# Altium footprint library PCB Library.PcbLib: 24 footprints (part 1 of 2)
Each footprint in its own frame and in the unit in brackets; x right, y up, seen from the top. Pads: shape width x height; smd on the part's side, far side on the other; paste and mask are expansions set on the pad; w line width, h text height; cw(c..) or ccw(c..) is an arc to the next point about the centre after c.
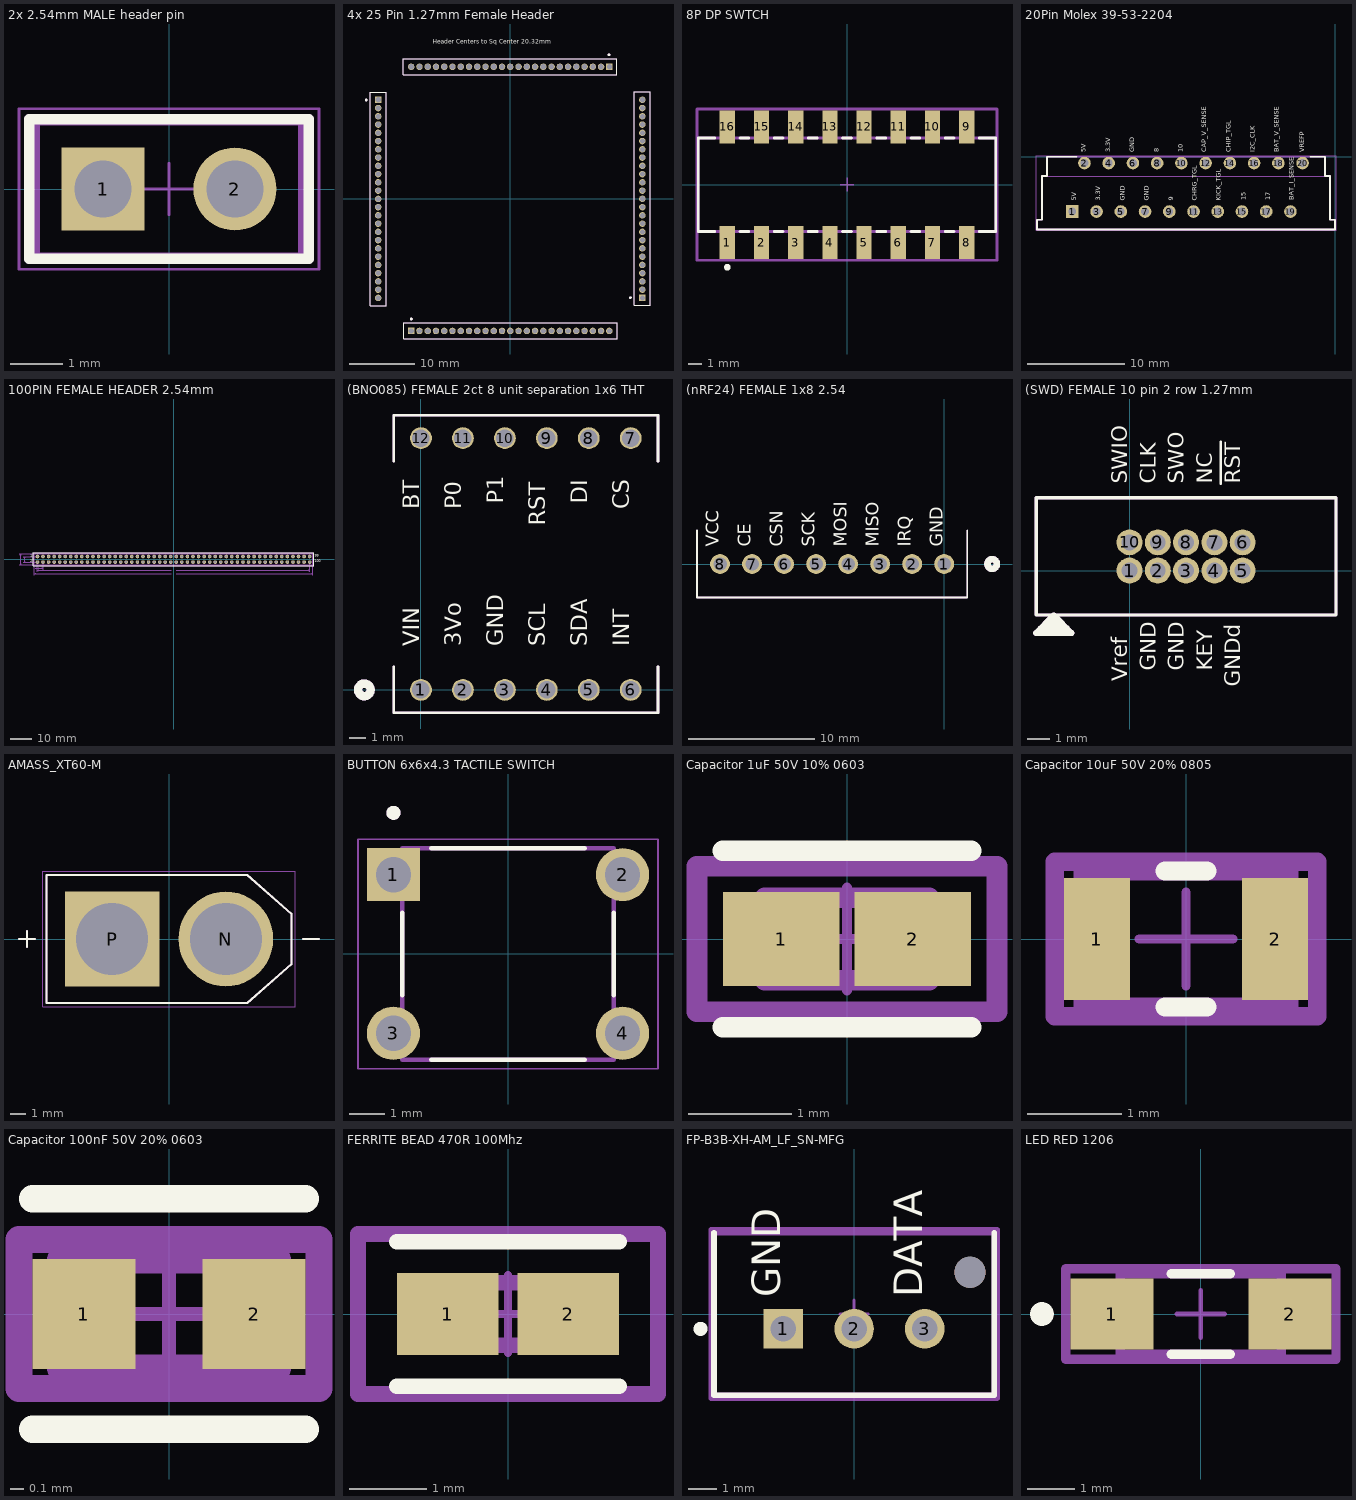
[diagram p0: the footprints below, top view; thin cyan lines are the x and y axes]

## 2x 2.54mm MALE header pin [mm] "Pin Header, pitch 2.54 mm, THT, Vertical, single row, 2p"
height 8.54
pads (2):
  rect 1.6x1.6 hole 1.1: 1(-1.27,0)
  round 1.6 hole 1.1: 2(1.27,0)
Top Overlay:
  lines w0.2: -2.69,-1.345 2.69,-1.345 2.69,1.345 -2.69,1.345 -2.69,-1.345
Top Assembly:
  lines w0.2: -2.69,-1.345 2.69,-1.345 2.69,1.345 -2.69,1.345 -2.69,-1.345
  text ".Designator" at -7.618,-0.508 h1.52
Top Courtyard:
  lines w0.05: -0.5,0 0.5,0 ; 0,-0.5 0,0.5 ; -2.89,-1.545 -2.89,1.545 2.89,1.545 2.89,-1.545 -2.89,-1.545
Top 3D Body:
  lines w0.1: -2.54,-1.27 -2.54,1.27 2.54,1.27 2.54,-1.27 -2.54,-1.27
3D body "61300211121.stp": height 8.57, standoff -2.97, extent -2.54,-1.27 2.54,1.27

## 4x 25 Pin 1.27mm Female Header [mm]
pads (100):
  rect 1x1 hole 0.79: 1(-20.32,15.24) 26(-15.24,-20.32) 51(20.32,-15.24) 76(15.24,20.32)
  round 1 hole 0.79: 2(-20.32,13.97) 3(-20.32,12.7) 4(-20.32,11.43) 5(-20.32,10.16) 6(-20.32,8.89) 7(-20.32,7.62) 8(-20.32,6.35) 9(-20.32,5.08) 10(-20.32,3.81) 11(-20.32,2.54) 12(-20.32,1.27) 13(-20.32,-0.012) 14(-20.32,-1.27) 15(-20.32,-2.54) 16(-20.32,-3.81) 17(-20.32,-5.08) 18(-20.32,-6.35) 19(-20.32,-7.62) 20(-20.32,-8.89) 21(-20.32,-10.16) 22(-20.32,-11.43) 23(-20.32,-12.7) 24(-20.32,-13.97) 25(-20.32,-15.24) 27(-13.97,-20.32) 28(-12.7,-20.32) 29(-11.43,-20.32) 30(-10.16,-20.32) 31(-8.89,-20.32) 32(-7.62,-20.32) 33(-6.35,-20.32) 34(-5.08,-20.32) 35(-3.81,-20.32) 36(-2.54,-20.32) 37(-1.27,-20.32) 38(0.013,-20.32) 39(1.27,-20.32) 40(2.54,-20.32) 41(3.81,-20.32) 42(5.08,-20.32) 43(6.35,-20.32) 44(7.62,-20.32) 45(8.89,-20.32) 46(10.16,-20.32) 47(11.43,-20.32) 48(12.7,-20.32) 49(13.97,-20.32) 50(15.24,-20.32) 52(20.32,-13.97) 53(20.32,-12.7) 54(20.32,-11.43) 55(20.32,-10.16) 56(20.32,-8.89) 57(20.32,-7.62) 58(20.32,-6.35) 59(20.32,-5.08) 60(20.32,-3.81) 61(20.32,-2.54) 62(20.32,-1.27) 63(20.32,0.012) 64(20.32,1.27) 65(20.32,2.54) 66(20.32,3.81) 67(20.32,5.08) 68(20.32,6.35) 69(20.32,7.62) 70(20.32,8.89) 71(20.32,10.16) 72(20.32,11.43) 73(20.32,12.7) 74(20.32,13.97) 75(20.32,15.24) 77(13.97,20.32) 78(12.7,20.32) 79(11.43,20.32) 80(10.16,20.32) 81(8.89,20.32) 82(7.62,20.32) 83(6.35,20.32) 84(5.08,20.32) 85(3.81,20.32) 86(2.54,20.32) 87(1.27,20.32) 88(-0.012,20.32) 89(-1.27,20.32) 90(-2.54,20.32) 91(-3.81,20.32) 92(-5.08,20.32) 93(-6.35,20.32) 94(-7.62,20.32) 95(-8.89,20.32) 96(-10.16,20.32) 97(-11.43,20.32) 98(-12.7,20.32) 99(-13.97,20.32) 100(-15.24,20.32)
Top Overlay:
  circle w0.2: c15.203,22.16 r0.1
  circle w0.2: c-15.202,-18.48 r0.1
  circle w0.2: c18.48,-15.202 r0.1
  circle w0.2: c-22.16,15.202 r0.1
  lines w0.127: -21.56,-16.445 -19.08,-16.445 -19.08,16.392 -21.56,16.392 -21.56,-16.445 ; -16.445,19.08 -16.445,21.56 16.393,21.56 16.393,19.08 -16.445,19.08 ; -16.392,-21.56 -16.392,-19.08 16.445,-19.08 16.445,-21.56 -16.392,-21.56 ; 19.08,-16.392 19.08,16.445 21.56,16.445 21.56,-16.392 19.08,-16.392
  text "Header Centers to Sq Center 20.32mm" at -11.896,23.897 h0.7
Top Assembly:
  circle w0.2: c15.203,22.16 r0.1
  circle w0.2: c-15.202,-18.48 r0.1
  circle w0.2: c-22.16,15.202 r0.1
  circle w0.2: c18.48,-15.202 r0.1
  lines w0.127: -21.56,-16.445 -19.08,-16.445 -19.08,16.392 -21.56,16.392 -21.56,-16.445 ; -16.445,19.08 -16.445,21.56 16.393,21.56 16.393,19.08 -16.445,19.08 ; -16.392,-21.56 -16.392,-19.08 16.445,-19.08 16.445,-21.56 -16.392,-21.56 ; 19.08,-16.392 21.56,-16.392 21.56,16.445 19.08,16.445 19.08,-16.392
  text ".Designator" at -7.618,-0.508 h1.52
3D body "SMS-125-01-G-S.stp": height 8.52, standoff -2.53, extent -15.989,18.796 15.989,21.844
3D body "SMS-125-01-G-S.stp": height 8.52, standoff -2.53, extent -15.989,-21.844 15.989,-18.796
3D body "SMS-125-01-G-S.stp": height 8.52, standoff -2.53, extent 18.796,-15.989 21.844,15.989
3D body "SMS-125-01-G-S.stp": height 8.52, standoff -2.53, extent -21.844,-15.989 -18.796,15.989

## 8P DP SWTCH [mm]
pads (16):
  rect 1.13x2.44 smd paste+0 mask+0: 1(-8.89,-4.3) 2(-6.35,-4.3) 3(-3.81,-4.3) 4(-1.27,-4.3) 5(1.27,-4.3) 6(3.81,-4.3) 7(6.35,-4.3) 8(8.89,-4.3) 9(8.89,4.3) 10(6.35,4.3) 11(3.81,4.3) 12(1.27,4.3) 13(-1.27,4.3) 14(-3.81,4.3) 15(-6.35,4.3) 16(-8.89,4.3)
Top Overlay:
  circle w0.25: c-8.89,-6.13 r0.125
  lines w0.2: -9.83,-3.475 -11.045,-3.475 -11.045,3.475 -9.83,3.475 ; -7.95,-3.475 -7.29,-3.475 ; -7.95,3.475 -7.29,3.475 ; -5.41,-3.475 -4.75,-3.475 ; -5.41,3.475 -4.75,3.475 ; -2.87,-3.475 -2.21,-3.475 ; -2.87,3.475 -2.21,3.475 ; -0.33,-3.475 0.33,-3.475 ; -0.33,3.475 0.33,3.475 ; 2.21,-3.475 2.87,-3.475 ; 2.21,3.475 2.87,3.475 ; 4.75,-3.475 5.41,-3.475 ; 4.75,3.475 5.41,3.475 ; 7.29,-3.475 7.95,-3.475 ; 7.29,3.475 7.95,3.475 ; 9.83,-3.475 11.045,-3.475 11.045,3.475 9.83,3.475
Top Assembly:
  lines w0.2: -11.145,-5.62 -11.145,5.62 11.145,5.62 11.145,-5.62 -11.145,-5.62
  text ".Designator" at -2.252,-0.226 h1
Top Courtyard:
  lines w0.2: -11.145,-5.62 -11.145,5.62 11.145,5.62 11.145,-5.62 -11.145,-5.62
Top 3D Body:
  lines w0.2: -11.045,-3.475 -11.045,3.475 11.045,3.475 11.045,-3.475 -11.045,-3.475
Top Component Center:
  lines w0.1: -0.5,0 0.5,0 ; 0,-0.5 0,0.5
3D body "Switch_CTS_Components_219-8MSTR_eec.STEP": height 0.25, standoff 0, extent -11.145,-5.62 11.145,5.62

## 20Pin Molex 39-53-2204 [mm] "FPC Connector, 20-Leads, Right Angle, Pitch 1.25 mm, Mated Height 5.0 mm, Through Hole"
height 5.412
pads (20):
  rect 1.3x1.3 hole 0.8: 1(-27.1,-5.65)
  round 1.3 hole 0.8: 2(-25.85,-0.65) 3(-24.6,-5.65) 4(-23.35,-0.65) 5(-22.1,-5.65) 6(-20.85,-0.65) 7(-19.6,-5.65) 8(-18.35,-0.65) 9(-17.1,-5.65) 10(-15.85,-0.65) 11(-14.6,-5.65) 12(-13.35,-0.65) 13(-12.1,-5.65) 14(-10.85,-0.65) 15(-9.6,-5.65) 16(-8.35,-0.65) 17(-7.1,-5.65) 18(-5.85,-0.65) 19(-4.6,-5.65) 20(-3.35,-0.65)
Top Overlay:
  lines w0.2: -26.675,0 -29.72,0 -29.72,-2.001 -30.25,-2.001 -30.25,-6.5 -30.75,-6.5 -30.75,-7.5 0,-7.5 0,-6.5 -0.5,-6.5 -0.5,-2 -1.03,-2 -1.03,0 -2.525,0
  text "15" at -9.199,-4.5 h0.5
  text "17" at -6.699,-4.5 h0.5
  text "BAT_I_SENSE" at -4.283,-4.498 h0.5
  text "5V" at -25.7,0.45 h0.5
  text "3.3V" at -23.2,0.45 h0.5
  text "GND" at -20.7,0.45 h0.5
  text "8" at -18.2,0.45 h0.5
  text "10" at -15.7,0.45 h0.5
  text "CAP_V_SENSE" at -13.283,0.45 h0.5
  text "CHIP_TGL" at -10.783,0.45 h0.5
  text "I2C_CLK" at -8.283,0.45 h0.5
  text "BAT_V_SENSE" at -5.783,0.45 h0.5
  text "VREFP" at -3.2,0.45 h0.5
  text "KICK_TGL" at -11.783,-4.55 h0.5
  text "CHRG_TGL" at -14.283,-4.55 h0.5
  text "9" at -16.7,-4.55 h0.5
  text "GND" at -19.2,-4.55 h0.5
  text "GND" at -21.7,-4.55 h0.5
  text "3.3V" at -24.2,-4.55 h0.5
  text "5V" at -26.7,-4.55 h0.5
Top Assembly:
  lines w0.2: -26.675,0 -29.72,0 -29.72,-2.001 -30.25,-2.001 -30.25,-6.5 -30.75,-6.5 -30.75,-7.5 0,-7.5 0,-6.5 -0.5,-6.5 -0.5,-2 -1.03,-2 -1.03,0 -2.525,0
  text ".Designator" at -23.288,-4.253 h1.52
Top Courtyard:
  lines w0.05: -30.85,-7.6 0.1,-7.6 0.1,0.1 -30.85,0.1 -30.85,-7.6
Top 3D Body:
  lines w0.1: -29.72,-2.001 -30.25,-2.001 -30.25,-6.5 -30.75,-6.5 -30.75,-7.5 0,-7.5 0,-6.5 -0.5,-6.5 -0.5,-2 -1.03,-2 -1.03,0 -29.72,0 -29.72,-2.001 -1.03,-2.001
3D body "039532204.stp": height 5.41, standoff -3.49, extent -30.749,-7.499 0.001,0.001

## 100PIN FEMALE HEADER 2.54mm [mm]
pads (100):
  round 1.64 hole 1.04: 1(-62.23,1.27) 2(-62.23,-1.27) 3(-59.69,1.27) 4(-59.69,-1.27) 5(-57.15,1.27) 6(-57.15,-1.27) 7(-54.61,1.27) 8(-54.61,-1.27) 9(-52.07,1.27) 10(-52.07,-1.27) 11(-49.53,1.27) 12(-49.53,-1.27) 13(-46.99,1.27) 14(-46.99,-1.27) 15(-44.45,1.27) 16(-44.45,-1.27) 17(-41.91,1.27) 18(-41.91,-1.27) 19(-39.37,1.27) 20(-39.37,-1.27) 21(-36.83,1.27) 22(-36.83,-1.27) 23(-34.29,1.27) 24(-34.29,-1.27) 25(-31.75,1.27) 26(-31.75,-1.27) 27(-29.21,1.27) 28(-29.21,-1.27) 29(-26.67,1.27) 30(-26.67,-1.27) 31(-24.13,1.27) 32(-24.13,-1.27) 33(-21.59,1.27) 34(-21.59,-1.27) 35(-19.05,1.27) 36(-19.05,-1.27) 37(-16.51,1.27) 38(-16.51,-1.27) 39(-13.97,1.27) 40(-13.97,-1.27) 41(-11.43,1.27) 42(-11.43,-1.27) 43(-8.89,1.27) 44(-8.89,-1.27) 45(-6.35,1.27) 46(-6.35,-1.27) 47(-3.81,1.27) 48(-3.81,-1.27) 49(-1.27,1.27) 50(-1.27,-1.27) 51(1.27,1.27) 52(1.27,-1.27) 53(3.81,1.27) 54(3.81,-1.27) 55(6.35,1.27) 56(6.35,-1.27) 57(8.89,1.27) 58(8.89,-1.27) 59(11.43,1.27) 60(11.43,-1.27) 61(13.97,1.27) 62(13.97,-1.27) 63(16.51,1.27) 64(16.51,-1.27) 65(19.05,1.27) 66(19.05,-1.27) 67(21.59,1.27) 68(21.59,-1.27) 69(24.13,1.27) 70(24.13,-1.27) 71(26.67,1.27) 72(26.67,-1.27) 73(29.21,1.27) 74(29.21,-1.27) 75(31.75,1.27) 76(31.75,-1.27) 77(34.29,1.27) 78(34.29,-1.27) 79(36.83,1.27) 80(36.83,-1.27) 81(39.37,1.27) 82(39.37,-1.27) 83(41.91,1.27) 84(41.91,-1.27) 85(44.45,1.27) 86(44.45,-1.27) 87(46.99,1.27) 88(46.99,-1.27) 89(49.53,1.27) 90(49.53,-1.27) 91(52.07,1.27) 92(52.07,-1.27) 93(54.61,1.27) 94(54.61,-1.27) 95(57.15,1.27) 96(57.15,-1.27) 97(59.69,1.27) 98(59.69,-1.27) 99(62.23,1.27) 100(62.23,-1.27)
Top Overlay:
  lines w0.2: -64.204,-2.927 64.204,-2.927 64.204,2.927 -64.204,2.927 -64.204,-2.927
  text "100" at 64.545,-1.905 h1.97
  text "99" at 64.545,0.635 h1.97
  text "2" at -65.574,-1.905 h1.97
  text "1" at -65.574,0.635 h1.97
Top Solder:
  circle w0: c62.23,-1.27 r0.871
  circle w0: c62.23,1.27 r0.871
  circle w0: c59.69,-1.27 r0.871
  circle w0: c59.69,1.27 r0.871
  circle w0: c57.15,-1.27 r0.871
  circle w0: c57.15,1.27 r0.871
  circle w0: c54.61,-1.27 r0.871
  circle w0: c54.61,1.27 r0.871
  circle w0: c52.07,-1.27 r0.871
  circle w0: c52.07,1.27 r0.871
  circle w0: c49.53,-1.27 r0.871
  circle w0: c49.53,1.27 r0.871
  circle w0: c46.99,-1.27 r0.871
  circle w0: c46.99,1.27 r0.871
  circle w0: c44.45,-1.27 r0.871
  circle w0: c44.45,1.27 r0.871
  circle w0: c41.91,-1.27 r0.871
  circle w0: c41.91,1.27 r0.871
  circle w0: c39.37,-1.27 r0.871
  circle w0: c39.37,1.27 r0.871
  circle w0: c36.83,-1.27 r0.871
  circle w0: c36.83,1.27 r0.871
  circle w0: c34.29,-1.27 r0.871
  circle w0: c34.29,1.27 r0.871
  circle w0: c31.75,-1.27 r0.871
  circle w0: c31.75,1.27 r0.871
  circle w0: c29.21,-1.27 r0.871
  circle w0: c29.21,1.27 r0.871
  circle w0: c26.67,-1.27 r0.871
  circle w0: c26.67,1.27 r0.871
  circle w0: c24.13,-1.27 r0.871
  circle w0: c24.13,1.27 r0.871
  circle w0: c21.59,-1.27 r0.871
  circle w0: c21.59,1.27 r0.871
  circle w0: c19.05,-1.27 r0.871
  circle w0: c19.05,1.27 r0.871
  circle w0: c16.51,-1.27 r0.871
  circle w0: c16.51,1.27 r0.871
  circle w0: c13.97,-1.27 r0.871
  circle w0: c13.97,1.27 r0.871
  circle w0: c11.43,-1.27 r0.871
  circle w0: c11.43,1.27 r0.871
  circle w0: c8.89,-1.27 r0.871
  circle w0: c8.89,1.27 r0.871
  circle w0: c6.35,-1.27 r0.871
  circle w0: c6.35,1.27 r0.871
  circle w0: c3.81,-1.27 r0.871
  circle w0: c3.81,1.27 r0.871
  circle w0: c1.27,-1.27 r0.871
  circle w0: c1.27,1.27 r0.871
  circle w0: c-1.27,-1.27 r0.871
  circle w0: c-1.27,1.27 r0.871
  circle w0: c-3.81,-1.27 r0.871
  circle w0: c-3.81,1.27 r0.871
  circle w0: c-6.35,-1.27 r0.871
  circle w0: c-6.35,1.27 r0.871
  circle w0: c-8.89,-1.27 r0.871
  circle w0: c-8.89,1.27 r0.871
  circle w0: c-11.43,-1.27 r0.871
  circle w0: c-11.43,1.27 r0.871
  circle w0: c-13.97,-1.27 r0.871
  circle w0: c-13.97,1.27 r0.871
  circle w0: c-16.51,-1.27 r0.871
  circle w0: c-16.51,1.27 r0.871
  circle w0: c-19.05,-1.27 r0.871
  circle w0: c-19.05,1.27 r0.871
  circle w0: c-21.59,-1.27 r0.871
  circle w0: c-21.59,1.27 r0.871
  circle w0: c-24.13,-1.27 r0.871
  circle w0: c-24.13,1.27 r0.871
  circle w0: c-26.67,-1.27 r0.871
  circle w0: c-26.67,1.27 r0.871
  circle w0: c-29.21,-1.27 r0.871
  circle w0: c-29.21,1.27 r0.871
  circle w0: c-31.75,-1.27 r0.871
  circle w0: c-31.75,1.27 r0.871
  circle w0: c-34.29,-1.27 r0.871
  circle w0: c-34.29,1.27 r0.871
  circle w0: c-36.83,-1.27 r0.871
  circle w0: c-36.83,1.27 r0.871
  circle w0: c-39.37,-1.27 r0.871
  circle w0: c-39.37,1.27 r0.871
  circle w0: c-41.91,-1.27 r0.871
  circle w0: c-41.91,1.27 r0.871
  circle w0: c-44.45,-1.27 r0.871
  circle w0: c-44.45,1.27 r0.871
  circle w0: c-46.99,-1.27 r0.871
  circle w0: c-46.99,1.27 r0.871
  circle w0: c-49.53,-1.27 r0.871
  circle w0: c-49.53,1.27 r0.871
  circle w0: c-52.07,-1.27 r0.871
  circle w0: c-52.07,1.27 r0.871
  circle w0: c-54.61,-1.27 r0.871
  circle w0: c-54.61,1.27 r0.871
  circle w0: c-57.15,-1.27 r0.871
  circle w0: c-57.15,1.27 r0.871
  circle w0: c-59.69,-1.27 r0.871
  circle w0: c-59.69,1.27 r0.871
  circle w0: c-62.23,-1.27 r0.871
  circle w0: c-62.23,1.27 r0.871
Bottom Solder:
  circle w0: c62.23,-1.27 r0.871
  circle w0: c62.23,1.27 r0.871
  circle w0: c59.69,-1.27 r0.871
  circle w0: c59.69,1.27 r0.871
  circle w0: c57.15,-1.27 r0.871
  circle w0: c57.15,1.27 r0.871
  circle w0: c54.61,-1.27 r0.871
  circle w0: c54.61,1.27 r0.871
  circle w0: c52.07,-1.27 r0.871
  circle w0: c52.07,1.27 r0.871
  circle w0: c49.53,-1.27 r0.871
  circle w0: c49.53,1.27 r0.871
  circle w0: c46.99,-1.27 r0.871
  circle w0: c46.99,1.27 r0.871
  circle w0: c44.45,-1.27 r0.871
  circle w0: c44.45,1.27 r0.871
  circle w0: c41.91,-1.27 r0.871
  circle w0: c41.91,1.27 r0.871
  circle w0: c39.37,-1.27 r0.871
  circle w0: c39.37,1.27 r0.871
  circle w0: c36.83,-1.27 r0.871
  circle w0: c36.83,1.27 r0.871
  circle w0: c34.29,-1.27 r0.871
  circle w0: c34.29,1.27 r0.871
  circle w0: c31.75,-1.27 r0.871
  circle w0: c31.75,1.27 r0.871
  circle w0: c29.21,-1.27 r0.871
  circle w0: c29.21,1.27 r0.871
  circle w0: c26.67,-1.27 r0.871
  circle w0: c26.67,1.27 r0.871
  circle w0: c24.13,-1.27 r0.871
  circle w0: c24.13,1.27 r0.871
  circle w0: c21.59,-1.27 r0.871
  circle w0: c21.59,1.27 r0.871
  circle w0: c19.05,-1.27 r0.871
  circle w0: c19.05,1.27 r0.871
  circle w0: c16.51,-1.27 r0.871
  circle w0: c16.51,1.27 r0.871
  circle w0: c13.97,-1.27 r0.871
  circle w0: c13.97,1.27 r0.871
  circle w0: c11.43,-1.27 r0.871
  circle w0: c11.43,1.27 r0.871
  circle w0: c8.89,-1.27 r0.871
  circle w0: c8.89,1.27 r0.871
  circle w0: c6.35,-1.27 r0.871
  circle w0: c6.35,1.27 r0.871
  circle w0: c3.81,-1.27 r0.871
  circle w0: c3.81,1.27 r0.871
  circle w0: c1.27,-1.27 r0.871
  circle w0: c1.27,1.27 r0.871
  circle w0: c-1.27,-1.27 r0.871
  circle w0: c-1.27,1.27 r0.871
  circle w0: c-3.81,-1.27 r0.871
  circle w0: c-3.81,1.27 r0.871
  circle w0: c-6.35,-1.27 r0.871
  circle w0: c-6.35,1.27 r0.871
  circle w0: c-8.89,-1.27 r0.871
  circle w0: c-8.89,1.27 r0.871
  circle w0: c-11.43,-1.27 r0.871
  circle w0: c-11.43,1.27 r0.871
  circle w0: c-13.97,-1.27 r0.871
  circle w0: c-13.97,1.27 r0.871
  circle w0: c-16.51,-1.27 r0.871
  circle w0: c-16.51,1.27 r0.871
  circle w0: c-19.05,-1.27 r0.871
  circle w0: c-19.05,1.27 r0.871
  circle w0: c-21.59,-1.27 r0.871
  circle w0: c-21.59,1.27 r0.871
  circle w0: c-24.13,-1.27 r0.871
  circle w0: c-24.13,1.27 r0.871
  circle w0: c-26.67,-1.27 r0.871
  circle w0: c-26.67,1.27 r0.871
  circle w0: c-29.21,-1.27 r0.871
  circle w0: c-29.21,1.27 r0.871
  circle w0: c-31.75,-1.27 r0.871
  circle w0: c-31.75,1.27 r0.871
  circle w0: c-34.29,-1.27 r0.871
  circle w0: c-34.29,1.27 r0.871
  circle w0: c-36.83,-1.27 r0.871
  circle w0: c-36.83,1.27 r0.871
  circle w0: c-39.37,-1.27 r0.871
  circle w0: c-39.37,1.27 r0.871
  circle w0: c-41.91,-1.27 r0.871
  circle w0: c-41.91,1.27 r0.871
  circle w0: c-44.45,-1.27 r0.871
  circle w0: c-44.45,1.27 r0.871
  circle w0: c-46.99,-1.27 r0.871
  circle w0: c-46.99,1.27 r0.871
  circle w0: c-49.53,-1.27 r0.871
  circle w0: c-49.53,1.27 r0.871
  circle w0: c-52.07,-1.27 r0.871
  circle w0: c-52.07,1.27 r0.871
  circle w0: c-54.61,-1.27 r0.871
  circle w0: c-54.61,1.27 r0.871
  circle w0: c-57.15,-1.27 r0.871
  circle w0: c-57.15,1.27 r0.871
  circle w0: c-59.69,-1.27 r0.871
  circle w0: c-59.69,1.27 r0.871
  circle w0: c-62.23,-1.27 r0.871
  circle w0: c-62.23,1.27 r0.871
Top Assembly:
  lines w0.2: -64.204,-2.927 64.204,-2.927 64.204,2.927 -64.204,2.927 -64.204,-2.927
  text ".Designator" at -7.618,-0.508 h1.52
  text "100" at 64.545,-1.905 h1.97
  text "99" at 64.545,0.635 h1.97
  text "2" at -65.574,-1.905 h1.97
  text "1" at -65.574,0.635 h1.97
Top Component Center:
  drawing of 502 lines, arcs and shapes, not listed
  text "100" at 64.545,-1.905 h1.97
  text "99" at 64.545,0.635 h1.97
  text "2" at -65.574,-1.905 h1.97
  text "1" at -65.574,0.635 h1.97
Mechanical 40:
  lines w0: -70.678,-2.476 -64.455,-2.476 ; -70.678,2.476 -64.455,2.476 ; -69.977,-0.318 -69.977,-2.476 ; -69.977,0.318 -69.977,2.476 ; -68.837,-1.27 -62.931,-1.27 ; -68.837,1.27 -62.931,1.27 ; -68.136,-0.318 -68.136,-1.27 ; -68.136,0.318 -68.136,1.27 ; -63.754,-7.242 -63.754,-3.178 ; -63.348,-4 -62.23,-4 ; -62.23,-5.718 -62.23,-1.971 -62.23,-4.702 ; -59.69,-4.702 -59.69,-1.971 ; -1.13,-6.54 -63.754,-6.54 ; -1.13,-5.016 -62.23,-5.016 ; 1.13,-6.54 63.754,-6.54 ; 1.13,-5.016 62.23,-5.016 ; 62.23,-5.718 62.23,-1.971 ; 63.754,-7.242 63.754,-3.178 ; -70.136,-1.842 -70.056,-1.905 -69.977,-2.476 ; -70.136,-1.842 -69.977,-1.968 ; -70.136,-1.842 -69.977,-2.476 ; -69.977,-2.476 -69.977,-1.968 ; -69.977,-2.476 -69.898,-1.905 -69.977,-1.968 ; -69.977,-2.476 -69.818,-1.842 -69.977,-1.968 ; -69.977,1.968 -69.977,2.476 ; -69.977,1.968 -70.056,1.905 -69.977,2.476 ; -69.977,1.968 -69.818,1.842 ; -69.977,1.968 -70.136,1.842 -69.977,2.476 ; -69.977,2.476 -69.898,1.905 -69.818,1.842 ; -69.977,2.476 -69.818,1.842 ; -68.294,-0.635 -68.215,-0.698 -68.136,-1.27 ; -68.294,-0.635 -68.136,-0.762 ; -68.294,-0.635 -68.136,-1.27 ; -68.136,-1.27 -68.136,-0.762 ; -68.136,-1.27 -68.056,-0.698 -68.136,-0.762 ; -68.136,-1.27 -67.977,-0.635 -68.136,-0.762 ; -68.136,0.762 -68.136,1.27 ; -68.136,0.762 -68.215,0.698 -68.136,1.27 ; -68.136,0.762 -67.977,0.635 ; -68.136,0.762 -68.294,0.635 -68.136,1.27 ; -68.136,1.27 -68.056,0.698 -67.977,0.635 ; -68.136,1.27 -67.977,0.635 ; -63.754,-6.54 -63.182,-6.461 -63.119,-6.382 ; -63.754,-6.54 -63.246,-6.54 ; -63.754,-6.54 -63.182,-6.62 -63.246,-6.54 ; -63.754,-6.54 -63.119,-6.699 -63.246,-6.54 ; -63.754,-6.54 -63.119,-6.382 ; -63.246,-6.54 -63.119,-6.382 ; -62.23,-5.016 -61.658,-4.937 -61.595,-4.858 ; -62.23,-5.016 -61.722,-5.016 ; -62.23,-5.016 -61.658,-5.096 -61.722,-5.016 ; -62.23,-5.016 -61.595,-5.175 -61.722,-5.016 ; -62.23,-5.016 -61.595,-4.858 ; -62.23,-4 -59.69,-4 ; -62.23,-4 -61.658,-3.921 -61.595,-3.842 ; -62.23,-4 -61.722,-4 ; -62.23,-4 -61.658,-4.08 -61.722,-4 ; -62.23,-4 -61.595,-4.159 -61.722,-4 ; -62.23,-4 -61.595,-3.842 ; -61.722,-5.016 -61.595,-4.858 ; -61.722,-4 -61.595,-3.842 ; -60.325,-4.159 -60.262,-4.08 -59.69,-4 ; -60.325,-4.159 -60.198,-4 ; -60.325,-4.159 -59.69,-4 ; -60.198,-4 -59.69,-4 ; -60.198,-4 -60.262,-3.921 -59.69,-4 ; -60.198,-4 -60.325,-3.842 -59.69,-4 ; 61.595,-5.175 61.658,-5.096 62.23,-5.016 ; 61.595,-5.175 61.722,-5.016 ; 61.595,-5.175 62.23,-5.016 ; 61.722,-5.016 62.23,-5.016 ; 61.722,-5.016 61.658,-4.937 62.23,-5.016 ; 61.722,-5.016 61.595,-4.858 62.23,-5.016 ; 63.119,-6.699 63.182,-6.62 63.754,-6.54 ; 63.119,-6.699 63.246,-6.54 ; 63.119,-6.699 63.754,-6.54 ; 63.246,-6.54 63.754,-6.54 ; 63.246,-6.54 63.182,-6.461 63.754,-6.54 ; 63.246,-6.54 63.119,-6.382 63.754,-6.54
  text "124.460" at -0.94,-5.144 h0.39
  text "127.508" at -0.94,-6.668 h0.39
  text "2.540" at -64.859,-4.128 h0.39
  text "4.953" at -70.637,-0.127 h0.39
  text "2.540" at -68.796,-0.127 h0.39
3D body "SSW-150-02-S-D-LL.stp": height 8.52, standoff -4.91, extent -63.5,-2.477 64.008,2.477

## (BNO085) FEMALE 2ct 8 unit separation 1x6 THT [mil]
pads (12):
  round 52 hole 42 mask+0: 1(0,0) 2(100,0) 3(200,0) 4(300,0) 5(400,0) 6(500,0) 7(500,600) 8(400,600) 9(300,600) 10(200,600) 11(100,600) 12(0,600)
Top Overlay:
  circle w20: c-135,0 r15
  lines w6: -65,55 -65,-55 565,-55 565,55 ; -65,545 -65,655 565,655 565,545
  text "VIN" at -3.94,103.94 h39.37
  text "3Vo" at 96.06,103.94 h39.37
  text "GND" at 196.06,103.94 h39.37
  text "SCL" at 296.06,103.94 h39.37
  text "SDA" at 396.06,103.94 h39.37
  text "INT" at 496.06,103.94 h39.37
  text "BT" at -3.94,430.47 h39.37
  text "P0" at 96.06,430.47 h39.37
  text "P1" at 196.06,443.59 h39.37
  text "RST" at 296.06,391.11 h39.37
  text "DI" at 396.06,443.59 h39.37
  text "CS" at 496.06,430.47 h39.37
Bottom Overlay:
  circle w20: c-135,0 r15
Top Assembly:
  circle w20: c-135,0 r15
  lines w6: -65,55 -65,-55 565,-55 565,55 ; -65,545 -65,655 565,655 565,545
  text ".Designator" at 0.1,280.01 h60
3D body "PPTC061LFBN-RC--3DModel-STEP-56544.STEP": height 335.5, standoff -125.5, extent -60,-50 560,50
3D body "PPTC061LFBN-RC--3DModel-STEP-56544.STEP": height 335.5, standoff -125.5, extent -60,550 560,650
3D body: height 10, standoff 0, extent 0,0 10,10
3D body: height 10, standoff 0, extent 0,600 10,610

## (nRF24) FEMALE 1x8 2.54 [mil]
pads (8):
  round 62 hole 42 mask+0: 1(0,0) 2(-100,0) 3(-200,0) 4(-300,0) 5(-400,0) 6(-500,0) 7(-600,0) 8(-700,0)
Top Overlay:
  circle w20: c150,0 r15
  lines w6: -772,105 -772,-105 72,-105 72,105
  text "CE" at -603.94,53.94 h39.37
  text "VCC" at -703.94,53.94 h39.37
  text "CSN" at -503.94,53.94 h39.37
  text "SCK" at -403.94,53.94 h39.37
  text "MOSI" at -303.94,53.94 h39.37
  text "MISO" at -203.94,53.94 h39.37
  text "IRQ" at -103.94,53.94 h39.37
  text "GND" at -3.94,53.94 h39.37
Top Assembly:
  circle w20: c150,0 r15
  lines w6: -772,105 -772,-105 72,-105 72,105
  text ".Designator" at -649.9,-19.99 h60
3D body: height 10, standoff 0, extent 0,0 10,10
3D body "PPTC081LFBN-RC--3DModel-STEP-56544.STEP": height 335.5, standoff -125.5, extent -760,-50 60,50

## (SWD) FEMALE 10 pin 2 row 1.27mm [mil]
pads (10):
  round 46 hole 28 mask+0: 1(0,0) 2(50,0) 3(100,0) 4(150,0) 5(200,0) 6(200,50) 7(150,50) 8(100,50) 9(50,50) 10(0,50)
Top Overlay:
  lines w3.94: 161.42,153.54 161.42,228.35
  lines w6: -165,-78.5 365,-78.5 365,128.5 -165,128.5 -165,-78.5
  lines w10: -110.24,-102.36 -157.48,-102.36 -149.61,-94.49 -118.11,-94.49 -133.86,-110.24 -133.86,-78.74 ; -133.86,-78.74 -165.35,-110.24 -102.36,-110.24 -133.86,-78.74 ; -133.86,-78.74 -133.86,-78.74
  text "Vref" at -3.94,-195.77 h27.56
  text "GND" at 46.06,-177.4 h27.56
  text "GND" at 96.06,-177.4 h27.56
  text "KEY" at 146.06,-177.4 h27.56
  text "GNDd" at 196.06,-204.95 h27.56
  text "SWIO" at -3.94,153.94 h27.56
  text "CLK" at 46.06,153.94 h27.56
  text "SWO" at 96.06,153.94 h27.56
  text "NC" at 146.06,153.94 h27.56
  text "RST" at 196.06,153.94 h27.56
Top Assembly:
  lines w6: -165,-78.5 365,-78.5 365,128.5 -165,128.5 -165,-78.5
  lines w10: -110.24,-102.36 -157.48,-102.36 -149.61,-94.49 -118.11,-94.49 -133.86,-110.24 -133.86,-78.74 ; -133.86,-78.74 -165.35,-110.24 -102.36,-110.24 -133.86,-78.74 ; -133.86,-78.74 -133.86,-78.74
  text ".Designator" at -199.9,30.01 h60
3D body: height 10, standoff 0, extent 0,0 10,10
3D body "3220-10-0100_1690681123.214.step": height 213.1, standoff -82.18, extent -150,-75.98 348.03,125.98

## AMASS_XT60-M [mm]
height 16
pads (2):
  round 6 hole 4.55: N(3.6,0)
  rect 6x6 hole 4.55: P(-3.6,0)
Top Overlay:
  lines w0.127: -9.5,0 -8.5,0 ; -9,-0.5 -9,0.5 ; 8.5,0 9.5,0 ; -7.75,-4.05 -7.75,4.05 4.95,4.05 7.75,1.6 7.75,-1.6 4.95,-4.05 -7.75,-4.05
Top 3D Body:
  lines w0.127: -9.5,0 -8.5,0 ; -9,-0.5 -9,0.5 ; 8.5,0 9.5,0 ; -7.75,-4.05 -7.75,4.05 4.95,4.05 7.75,1.6 7.75,-1.6 4.95,-4.05 -7.75,-4.05
Mechanical 15:
  lines w0.05: -8,-4.3 8,-4.3 8,4.3 -8,4.3 -8,-4.3
3D body "step_temp.STEP": height 16.01, standoff -4.49, extent -7.75,-4.177 7.75,3.923

## BUTTON 6x6x4.3 TACTILE SWITCH [mm]
pads (4):
  rect 1.508x1.508 / inner round 1.508 / far side rect 1.508x1.508 hole 1: 1(-3.25,2.25)
  round 1.508 hole 1: 2(3.25,2.25) 3(-3.25,-2.25) 4(3.25,-2.25)
Top Overlay:
  circle w0.2: c-3.25,4.004 r0.1
  lines w0.127: -3,-1.176 -3,1.176 ; -2.176,-3 2.176,-3 ; -2.176,3 2.176,3 ; 3,-1.176 3,1.176
Top Assembly:
  circle w0.2: c-3.25,4.004 r0.1
  lines w0.127: -3,-1.176 -3,1.176 ; -2.176,-3 2.176,-3 ; -2.176,3 2.176,3 ; 3,-1.176 3,1.176
  text ".Designator" at -7.618,-0.508 h1.52
Top 3D Body:
  circle w0.2: c-3.25,4.004 r0.1
  lines w0.127: -3,-3 -3,3 3,3 3,-3 -3,-3
Mechanical 15:
  lines w0.05: -4.254,-3.254 4.254,-3.254 4.254,3.254 -4.254,3.254 -4.254,-3.254
3D body "CUI_DEVICES_TS02-66-43-BK-160-LCR-D.step": height 4.21, standoff -3.59, extent -3.95,-3 3.95,3

## Capacitor 1uF 50V 10% 0603 [mm]
pads (2):
  rect 1.131x0.912 smd paste+0 mask+0: 1(-0.641,0) 2(0.641,0)
Top Overlay:
  lines w0.2: -1.206,-0.856 1.206,-0.856 ; -1.206,0.856 1.206,0.856
Top Assembly:
  lines w0.2: -1.456,-0.706 -1.456,0.706 1.456,0.706 1.456,-0.706 -1.456,-0.706
  text ".Designator" at -2.252,-0.226 h1
Top Courtyard:
  lines w0.2: -1.456,-0.706 -1.456,0.706 1.456,0.706 1.456,-0.706 -1.456,-0.706
Top 3D Body:
  lines w0.2: -0.8,-0.4 -0.8,0.4 0.8,0.4 0.8,-0.4 -0.8,-0.4
Top Component Center:
  lines w0.1: -0.5,0 0.5,0 ; 0,-0.5 0,0.5
3D body "Cap_TDK_C1608X6S0G106K080AB_eec.STEP": height 0.25, standoff 0, extent -1.456,-0.706 1.456,0.706

## Capacitor 10uF 50V 20% 0805 [mm]
pads (2):
  rect 0.7x1.3 smd paste+0 mask+0: 1(-0.95,0) 2(0.95,0)
Top Overlay:
  lines w0.2: -0.225,-0.725 0.225,-0.725 ; -0.225,0.725 0.225,0.725
Top Assembly:
  lines w0.2: -1.4,-0.825 1.4,-0.825 1.4,0.825 -1.4,0.825 -1.4,-0.825
  text ".Designator" at -2.252,-0.226 h1
Top Courtyard:
  lines w0.2: -1.4,-0.825 1.4,-0.825 1.4,0.825 -1.4,0.825 -1.4,-0.825
Top 3D Body:
  lines w0.2: -1.1,-0.725 1.1,-0.725 1.1,0.725 -1.1,0.725 -1.1,-0.725
Top Component Center:
  lines w0.1: -0.5,0 0.5,0 ; 0,-0.5 0,0.5
3D body "Cap_Murata_GRM21BC71C106KE11L_eec.STEP": height 0.25, standoff 0, extent -1.4,-0.825 1.4,0.825

## Capacitor 100nF 50V 20% 0603 [mm]
pads (2):
  rect 0.758x0.812 smd paste+0 mask+0: 1(-0.627,0) 2(0.627,0)
Top Overlay:
  lines w0.2: -1.006,-0.85 1.006,-0.85 ; -1.006,0.85 1.006,0.85
Top Assembly:
  lines w0.2: -1.106,-0.55 -1.106,0.55 1.106,0.55 1.106,-0.55 -1.106,-0.55
  text ".Designator" at -2.252,-0.226 h1
Top Courtyard:
  lines w0.2: -1.106,-0.55 -1.106,0.55 1.106,0.55 1.106,-0.55 -1.106,-0.55
Top 3D Body:
  lines w0.2: -0.8,-0.4 -0.8,0.4 0.8,0.4 0.8,-0.4 -0.8,-0.4
Top Component Center:
  lines w0.1: -0.5,0 0.5,0 ; 0,-0.5 0,0.5
3D body "Cap_Samsung_CL10B473KO8NNWC_eec.STEP": height 0.25, standoff 0, extent -1.106,-0.55 1.106,0.55

## FERRITE BEAD 470R 100Mhz [mm]
pads (2):
  rect 1.306x1.058 smd paste+0 mask+0: 1(-0.776,0) 2(0.776,0)
Top Overlay:
  lines w0.2: -1.429,-0.929 1.429,-0.929 ; -1.429,0.929 1.429,0.929
Top Assembly:
  lines w0.2: -1.929,-1.029 -1.929,1.029 1.929,1.029 1.929,-1.029 -1.929,-1.029
  text ".Designator" at -2.252,-0.226 h1
Top Courtyard:
  lines w0.2: -1.929,-1.029 -1.929,1.029 1.929,1.029 1.929,-1.029 -1.929,-1.029
Top 3D Body:
  lines w0.2: -0.8,-0.4 -0.8,0.4 0.8,0.4 0.8,-0.4 -0.8,-0.4
Top Component Center:
  lines w0.1: -0.5,0 0.5,0 ; 0,-0.5 0,0.5
3D body "FBead_Murata_BLM18EG221SN1D_eec.STEP": height 0.25, standoff 0, extent -1.929,-1.029 1.929,1.029

## FP-B3B-XH-AM_LF_SN-MFG [mm]
height 7.87
pads (4):
  rect 1.4x1.4 hole 0.9 paste-1000 mask+0: 1(-2.5,-0.525)
  round 1.4 hole 0.9 paste-1000 mask+0: 2(0,-0.525) 3(2.5,-0.525)
  round 1.1 hole 1.1 unplated paste-1000 mask+0: ""(4.1,1.475)
Top Overlay:
  circle w0.25: c-5.425,-0.525 r0.125
  lines w0.2: -4.95,2.875 -4.95,-2.875 4.95,-2.875 4.95,2.875
  text "DATA" at 2.4,0.6 h1
  text "GND" at -2.6,0.6 h1
Top Assembly:
  lines w0.2: -5.05,-2.975 -5.05,2.975 5.05,2.975 5.05,-2.975 -5.05,-2.975
  text ".Designator" at -2.252,-0.226 h1
Top Courtyard:
  lines w0.2: -5.05,-2.975 -5.05,2.975 5.05,2.975 5.05,-2.975 -5.05,-2.975
Top 3D Body:
  lines w0.2: -4.95,-2.875 -4.95,2.875 4.95,2.875 4.95,-2.875 -4.95,-2.875
Top Component Center:
  lines w0.1: -0.5,0 0.5,0 ; 0,-0.5 0,0.5
3D body "Conn_JST_B3B-XH-AM_LF_SN_eec.STEP": height 0.25, standoff 0, extent -5.05,-2.975 5.05,2.975

## LED RED 1206 [mm]
height 0.55
pads (2):
  rect 1.75x1.5 smd paste+0 mask+0: 1(-1.875,0) 2(1.875,0)
Top Overlay:
  circle w0.25: c-3.35,0 r0.125
  lines w0.2: -0.625,-0.85 0.625,-0.85 ; -0.625,0.85 0.625,0.85
Top Assembly:
  lines w0.2: -2.85,-0.95 2.85,-0.95 2.85,0.95 -2.85,0.95 -2.85,-0.95
  text ".Designator" at -2.252,-0.226 h1
Top Courtyard:
  lines w0.2: -2.85,-0.95 2.85,-0.95 2.85,0.95 -2.85,0.95 -2.85,-0.95
Top 3D Body:
  lines w0.2: -1.7,-0.85 1.7,-0.85 1.7,0.85 -1.7,0.85 -1.7,-0.85
Top Component Center:
  lines w0.1: -0.5,0 0.5,0 ; 0,-0.5 0,0.5
3D body "Diode_VCC_CMD15-21VRD-TR8_eec.STEP": height 0.25, standoff 0, extent -2.85,-0.95 2.85,0.95